# Altium footprint library RLC Footprints.PcbLib: 68 footprints (part 1 of 5)
Each footprint in its own frame and in the unit in brackets; x right, y up, seen from the top. Pads: shape width x height; smd on the part's side, far side on the other; paste and mask are expansions set on the pad; w line width, h text height; cw(c..) or ccw(c..) is an arc to the next point about the centre after c.
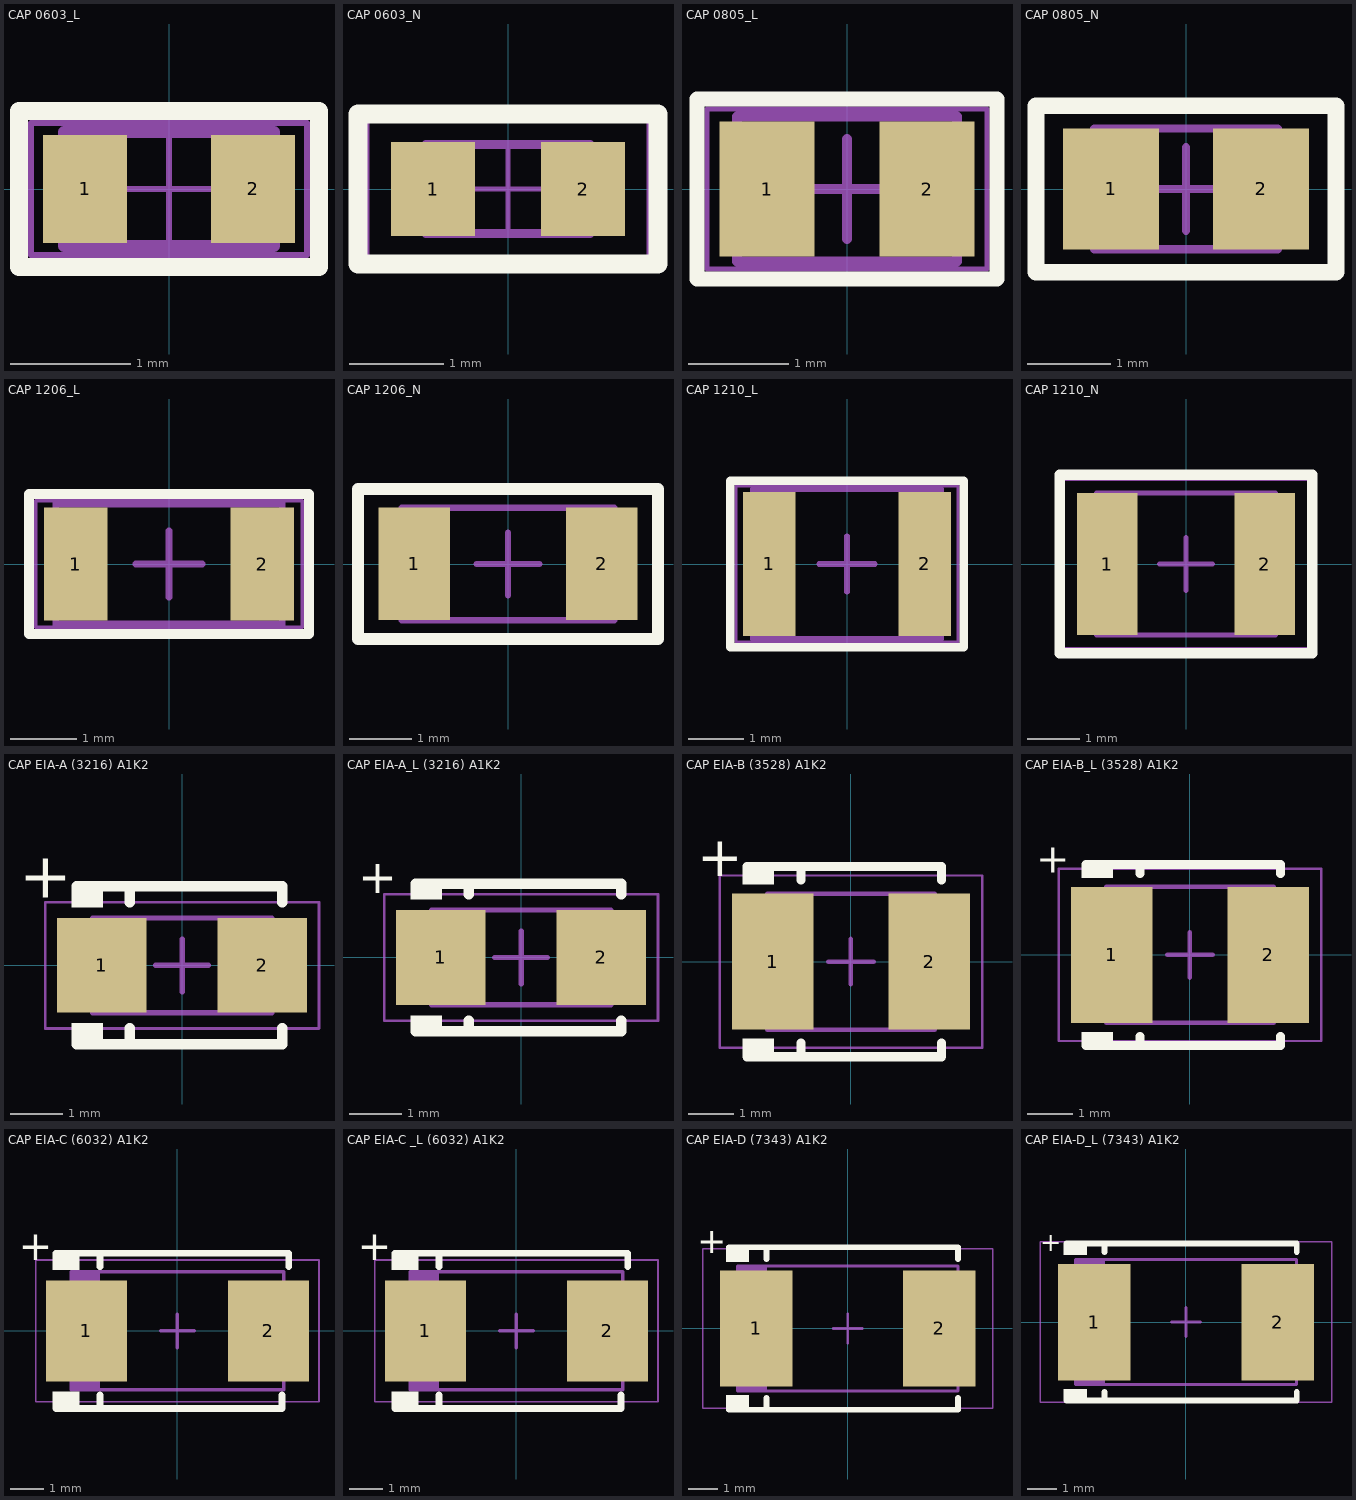
[diagram p0: the footprints below, top view; thin cyan lines are the x and y axes]

## CAP 0603_L [mm] "Chip Capacitor, Body 1.6x0.8mm, Height 0.55mm, IPC High Density"
height 0.55
pads (2):
  rect 0.7x0.9 smd: 1(-0.7,0) 2(0.7,0)
Top Overlay:
  lines w0.15: -1.25,-0.65 0.85,-0.65 1.25,-0.65 1.25,0.65 0.85,0.65 -1.25,0.65 -1.25,-0.65
Mechanical 13:
  lines w0.1: -0.875,-0.475 -0.875,0.475 0.875,0.475 0.875,-0.475 -0.875,-0.475
Mechanical 15:
  lines w0.05: -0.475,0 0.475,0 ; 0,-0.475 0,0.475 ; -1.15,-0.55 -1.15,0.55 1.15,0.55 1.15,-0.55 -1.15,-0.55
3D body: height 0.55, standoff 0, extent 0.525,-0.475 0.875,0.475
3D body: height 0.55, standoff 0, extent -0.875,-0.475 -0.525,0.475
3D body: height 0.55, standoff 0, extent -0.525,-0.475 0.525,0.475

## CAP 0603_N [mm] "Chip Capacitor, Body 1.6x0.8mm, Height 0.55mm, IPC Medium Density"
height 0.55
pads (2):
  rect 0.9x1 smd: 1(-0.8,0) 2(0.8,0)
Top Overlay:
  lines w0.2: -1.6,-0.8 -1.6,0.8 1.1,0.8 1.6,0.8 1.6,-0.8 1.1,-0.8 -1.6,-0.8
Mechanical 13:
  lines w0.1: -0.875,-0.475 -0.875,0.475 0.875,0.475 0.875,-0.475 -0.875,-0.475
Mechanical 15:
  lines w0.05: -0.475,0 0.475,0 ; 0,-0.475 0,0.475 ; -1.5,-0.75 -1.5,0.75 1.5,0.75 1.5,-0.75 -1.5,-0.75
3D body: height 0.55, standoff 0, extent -0.525,-0.475 0.525,0.475
3D body: height 0.55, standoff 0, extent -0.875,-0.475 -0.525,0.475
3D body: height 0.55, standoff 0, extent 0.525,-0.475 0.875,0.475

## CAP 0805_L [mm] "Chip Capacitor, Body 2.0x1.2mm, Height 0.75mm, IPC High Density"
height 0.75
pads (2):
  rect 0.95x1.35 smd: 1(-0.8,0) 2(0.8,0)
Top Overlay:
  lines w0.15: -1.5,-0.9 -1.5,0.9 1.1,0.9 1.5,0.9 1.5,-0.9 1.1,-0.9 -1.5,-0.9
Mechanical 13:
  lines w0.1: -1.1,-0.725 -1.1,0.725 1.1,0.725 1.1,-0.725 -1.1,-0.725
Mechanical 15:
  lines w0.05: -1.4,-0.8 -1.4,0.8 1.4,0.8 1.4,-0.8 -1.4,-0.8
  lines w0.1: -0.5,0 0.5,0 ; 0,-0.5 0,0.5
3D body: height 0.75, standoff 0, extent -0.6,-0.725 0.6,0.725
3D body: height 0.75, standoff 0, extent -1.1,-0.725 -0.6,0.725
3D body: height 0.75, standoff 0, extent 0.6,-0.725 1.1,0.725

## CAP 0805_N [mm] "Chip Capacitor, Body 2.0x1.2mm, Height 0.75mm, IPC Medium Density"
height 0.75
pads (2):
  rect 1.15x1.45 smd: 1(-0.9,0) 2(0.9,0)
Top Overlay:
  lines w0.2: -1.8,-1 1.1,-1 1.8,-1 1.8,1 1.1,1 -1.8,1 -1.8,-0.9 -1.8,-1
Mechanical 13:
  lines w0.1: -1.1,-0.725 -1.1,0.725 1.1,0.725 1.1,-0.725 -1.1,-0.725
Mechanical 15:
  lines w0.05: -1.75,-1 -1.75,1 1.75,1 1.75,-1 -1.75,-1
  lines w0.1: -0.5,0 0.5,0 ; 0,-0.5 0,0.5
3D body: height 0.75, standoff 0, extent -0.6,-0.725 0.6,0.725
3D body: height 0.75, standoff 0, extent -1.1,-0.725 -0.6,0.725
3D body: height 0.75, standoff 0, extent 0.6,-0.725 1.1,0.725

## CAP 1206_L [mm] "Chip Capacitor, Body 3.2x1.6mm, Height 0.75mm, IPC High Density"
height 0.75
pads (2):
  rect 0.95x1.7 smd: 1(-1.4,0) 2(1.4,0)
Top Overlay:
  lines w0.15: -2.1,-1.05 -2.1,1.05 1.6,1.05 2.1,1.05 2.1,-1.05 1.6,-1.05 -2.1,-1.05
Mechanical 13:
  lines w0.1: -1.7,-0.9 1.7,-0.9 1.7,0.9 -1.7,0.9 -1.7,-0.9
Mechanical 15:
  lines w0.05: -2,-0.95 2,-0.95 2,0.95 -2,0.95 -2,-0.95
  lines w0.1: -0.5,0 0.5,0 ; 0,-0.5 0,0.5
3D body: height 0.75, standoff 0, extent 1.2,-0.9 1.7,0.9
3D body: height 0.75, standoff 0, extent -1.7,-0.9 -1.2,0.9
3D body: height 0.75, standoff 0, extent -1.2,-0.9 1.2,0.9

## CAP 1206_N [mm] "Chip Capacitor, Body 3.2x1.6mm, Height 0.75mm, IPC Medium Density"
height 0.75
pads (2):
  rect 1.15x1.8 smd: 1(-1.5,0) 2(1.5,0)
Top Overlay:
  lines w0.2: -2.4,-1.2 -2.4,1.2 1.6,1.2 2.4,1.2 2.4,-1.2 1.6,-1.2 -2.4,-1.2
Mechanical 13:
  lines w0.1: -1.7,-0.9 1.7,-0.9 1.7,0.9 -1.7,0.9 -1.7,-0.9
Mechanical 15:
  lines w0.05: -2.35,-1.15 2.35,-1.15 2.35,1.15 -2.35,1.15 -2.35,-1.15
  lines w0.1: -0.5,0 0.5,0 ; 0,-0.5 0,0.5
3D body: height 0.75, standoff 0, extent 1.2,-0.9 1.7,0.9
3D body: height 0.75, standoff 0, extent -1.7,-0.9 -1.2,0.9
3D body: height 0.75, standoff 0, extent -1.2,-0.9 1.2,0.9

## CAP 1210_L [mm] "Chip Capacitor, Body 3.2x2.5mm, Height 0.7mm, IPC High Density"
height 0.7
pads (2):
  rect 0.95x2.6 smd: 1(-1.4,0) 2(1.4,0)
Top Overlay:
  lines w0.15: -2.1,-1.5 -2.1,1.5 1.6,1.5 2.1,1.5 2.1,-1.5 1.6,-1.5 -2.1,-1.5
Mechanical 13:
  lines w0.1: -1.7,-1.35 1.7,-1.35 1.7,1.35 -1.7,1.35 -1.7,-1.35
Mechanical 15:
  lines w0.05: -2,-1.4 2,-1.4 2,1.4 -2,1.4 -2,-1.4
  lines w0.1: -0.5,0 0.5,0 ; 0,-0.5 0,0.5
3D body: height 0.7, standoff 0, extent 1.2,-1.35 1.7,1.35
3D body: height 0.7, standoff 0, extent -1.7,-1.35 -1.2,1.35
3D body: height 0.7, standoff 0, extent -1.2,-1.35 1.2,1.35

## CAP 1210_N [mm] "Chip Capacitor, Body 3.2x2.5mm, Height 0.7mm, IPC Medium Density"
height 0.7
pads (2):
  rect 1.15x2.7 smd: 1(-1.5,0) 2(1.5,0)
Top Overlay:
  lines w0.2: -2.4,-1.7 -2.4,1.7 1.6,1.7 2.4,1.7 2.4,-1.7 1.6,-1.7 -2.4,-1.7
Mechanical 13:
  lines w0.1: -1.7,-1.35 -1.7,1.35 1.7,1.35 1.7,-1.35 -1.7,-1.35
Mechanical 15:
  lines w0.05: -2.35,-1.6 -2.35,1.6 2.35,1.6 2.35,-1.6 -2.35,-1.6
  lines w0.1: -0.5,0 0.5,0 ; 0,-0.5 0,0.5
3D body: height 0.7, standoff 0, extent -1.2,-1.35 1.2,1.35
3D body: height 0.7, standoff 0, extent -1.7,-1.35 -1.2,1.35
3D body: height 0.7, standoff 0, extent 1.2,-1.35 1.7,1.35

## CAP EIA-A (3216) A1K2 [mm] "Molded Capacitor, 2-Leads, Body 3.20x1.60mm, IPC Medium Density"
height 1.8
pads (2):
  rect 1.7x1.8 smd: 1(-1.525,0) 2(1.525,0)
Top Overlay:
  rectangle: -2.1,-1.5 -1.5,-1.1
  rectangle: -2.1,1.1 -1.5,1.5
  lines w0.2: -2,-1.5 1.9,-1.5 1.9,-1.2 ; -2,1.5 1.9,1.5 1.9,1.2 ; -1,-1.5 -1,-1.2 ; -1,1.2 -1,1.5
  text "+" at -3.1,1 h1.5
Mechanical 13:
  rectangle: -1.7,-0.9 -1.243,0.9
  lines w0.1: -1.7,-0.9 -1.7,0.9 1.7,0.9 1.7,-0.9 -1.7,-0.9
Mechanical 15:
  lines w0.05: -2.6,-1.2 -2.6,1.2 2.6,1.2 2.6,-1.2 -2.6,-1.2
  lines w0.1: -0.5,0 0.5,0 ; 0,-0.5 0,0.5
3D body: height 1.9, standoff 1.8, extent -1.7,-0.9 -1.3,0.9
3D body: height 1.8, standoff 0, extent -1.7,-0.9 1.7,0.9

## CAP EIA-A_L (3216) A1K2 [mm] "Molded Capacitor, 2-Leads, Body 3.20x1.60mm, IPC High Density"
height 1.8
pads (2):
  rect 1.7x1.8 smd: 1(-1.525,0) 2(1.525,0)
Top Overlay:
  rectangle: -2.1,-1.4 -1.5,-1.1
  rectangle: -2.1,1.1 -1.5,1.4
  lines w0.2: -2,-1.4 1.9,-1.4 1.9,-1.2 ; -2,1.4 1.9,1.4 1.9,1.2 ; -1,-1.4 -1,-1.2 ; -1,1.2 -1,1.4
  text "+" at -3.1,1 h1.1
Mechanical 13:
  rectangle: -1.7,-0.9 -1.243,0.9
  lines w0.1: -1.7,-0.9 -1.7,0.9 1.7,0.9 1.7,-0.9 -1.7,-0.9
Mechanical 15:
  lines w0.05: -2.6,-1.2 -2.6,1.2 2.6,1.2 2.6,-1.2 -2.6,-1.2
  lines w0.1: -0.5,0 0.5,0 ; 0,-0.5 0,0.5
3D body: height 1.9, standoff 1.8, extent -1.7,-0.9 -1.3,0.9
3D body: height 1.8, standoff 0, extent -1.7,-0.9 1.7,0.9

## CAP EIA-B (3528) A1K2 [mm] "Molded Capacitor, 2-Leads, Body 3.50x2.80mm, IPC Medium Density"
height 2.1
pads (2):
  rect 1.8x3 smd: 1(-1.725,0) 2(1.725,0)
Top Overlay:
  rectangle: -2.4,1.7 -1.7,2.1
  rectangle: -2.4,-2.1 -1.7,-1.7
  lines w0.2: -2.3,-2.1 2,-2.1 2,-1.8 ; -2.3,2.1 2,2.1 2,1.8 ; -1.1,-2.1 -1.1,-1.8 ; -1.1,1.8 -1.1,2.1
  text "+" at -3.4,1.6 h1.5
Mechanical 13:
  rectangle: -1.85,-1.5 -1.352,1.5
  lines w0.1: -1.85,-1.5 1.85,-1.5 1.85,1.5 -1.85,1.5 -1.85,-1.5
Mechanical 15:
  lines w0.05: -2.9,-1.9 2.9,-1.9 2.9,1.9 -2.9,1.9 -2.9,-1.9
  lines w0.1: -0.5,0 0.5,0 ; 0,-0.5 0,0.5
3D body: height 2.1, standoff 0, extent -1.85,-1.5 1.85,1.5
3D body: height 2.2, standoff 2.1, extent -1.825,-1.5 -1.375,1.5

## CAP EIA-B_L (3528) A1K2 [mm] "Molded Capacitor, 2-Leads, Body 3.50x2.80mm, IPC High Density"
height 2.1
pads (2):
  rect 1.8x3 smd: 1(-1.725,0) 2(1.725,0)
Top Overlay:
  rectangle: -2.4,1.7 -1.7,2
  rectangle: -2.4,-2 -1.7,-1.7
  lines w0.2: -2.3,-2 2,-2 2,-1.8 ; -2.3,2 2,2 2,1.8 ; -1.1,-2 -1.1,-1.8 ; -1.1,1.8 -1.1,2
  text "+" at -3.4,1.6 h1.1
Mechanical 13:
  rectangle: -1.85,-1.5 -1.352,1.5
  lines w0.1: -1.85,-1.5 1.85,-1.5 1.85,1.5 -1.85,1.5 -1.85,-1.5
Mechanical 15:
  lines w0.05: -2.9,-1.9 2.9,-1.9 2.9,1.9 -2.9,1.9 -2.9,-1.9
  lines w0.1: -0.5,0 0.5,0 ; 0,-0.5 0,0.5
3D body: height 2.1, standoff 0, extent -1.85,-1.5 1.85,1.5
3D body: height 2.2, standoff 2.1, extent -1.825,-1.5 -1.375,1.5

## CAP EIA-C (6032) A1K2 [mm] "Molded Capacitor, 2-Leads, Body 6.00x3.20mm, IPC Medium Density"
height 2.8
pads (2):
  rect 2.4x3 smd: 1(-2.7,0) 2(2.7,0)
Top Overlay:
  rectangle: -3.7,1.8 -2.9,2.3
  rectangle: -3.7,-2.3 -2.9,-1.8
  lines w0.2: -3.6,-2.3 3.1,-2.3 3.1,-1.9 ; -3.6,2.3 3.3,2.3 3.3,1.9 ; -2.3,-2.3 -2.3,-1.9 ; -2.3,1.9 -2.3,2.3
  text "+" at -4.7,1.8 h1.5
Mechanical 13:
  rectangle: -3.15,-1.75 -2.303,1.75
  lines w0.1: -3.15,-1.75 3.15,-1.75 3.15,1.75 -3.15,1.75 -3.15,-1.75
Mechanical 15:
  lines w0.05: -4.2,-2.1 4.2,-2.1 4.2,2.1 -4.2,2.1 -4.2,-2.1
  lines w0.1: -0.5,0 0.5,0 ; 0,-0.5 0,0.5
3D body: height 2.9, standoff 2.8, extent -3.15,-1.75 -2.3,1.75
3D body: height 2.8, standoff 0, extent -3.15,-1.75 3.15,1.75

## CAP EIA-C _L (6032) A1K2 [mm] "Molded Capacitor, 2-Leads, Body 6.00x3.20mm, IPC High Density"
height 2.8
pads (2):
  rect 2.4x3 smd: 1(-2.7,0) 2(2.7,0)
Top Overlay:
  rectangle: -3.7,-2.3 -2.9,-1.8
  rectangle: -3.7,1.8 -2.9,2.3
  lines w0.2: -3.6,-2.3 3.1,-2.3 3.1,-1.9 ; -3.6,2.3 3.3,2.3 3.3,1.9 ; -2.3,-2.3 -2.3,-1.9 ; -2.3,1.9 -2.3,2.3
  text "+" at -4.7,1.8 h1.5
Mechanical 13:
  rectangle: -3.15,-1.75 -2.303,1.75
  lines w0.1: -3.15,-1.75 -3.15,1.75 3.15,1.75 3.15,-1.75 -3.15,-1.75
Mechanical 15:
  lines w0.05: -4.2,-2.1 -4.2,2.1 4.2,2.1 4.2,-2.1 -4.2,-2.1
  lines w0.1: -0.5,0 0.5,0 ; 0,-0.5 0,0.5
3D body: height 2.8, standoff 0, extent -3.15,-1.75 3.15,1.75
3D body: height 2.9, standoff 2.8, extent -3.15,-1.75 -2.3,1.75

## CAP EIA-D (7343) A1K2 [mm] "Molded Capacitor, 2-Leads, Body 7.30x4.30mm, IPC Medium Density"
height 3.1
pads (2):
  rect 2.5x4 smd: 1(-3.15,0) 2(3.15,0)
Top Overlay:
  rectangle: -4.2,-2.8 -3.4,-2.3
  rectangle: -4.2,2.3 -3.4,2.8
  lines w0.2: -4.1,-2.8 3.8,-2.8 3.8,-2.4 ; -4.1,2.8 3.8,2.8 3.8,2.4 ; -2.8,-2.8 -2.8,-2.4 ; -2.8,2.4 -2.8,2.8
  text "+" at -5.2,2.3 h1.5
Mechanical 13:
  rectangle: -3.8,-2.15 -2.778,2.15
  lines w0.1: -3.8,-2.15 3.8,-2.15 3.8,2.15 -3.8,2.15 -3.8,-2.15
Mechanical 15:
  lines w0.05: -5,-2.75 5,-2.75 5,2.75 -5,2.75 -5,-2.75
  lines w0.1: -0.5,0 0.5,0 ; 0,-0.5 0,0.5
3D body: height 3.1, standoff 0, extent -3.8,-2.15 3.8,2.15
3D body: height 3.2, standoff 3.1, extent -3.8,-2.15 -2.8,2.15

## CAP EIA-D_L (7343) A1K2 [mm] "Molded Capacitor, 2-Leads, Body 7.30x4.30mm, IPC High Density"
height 3.1
pads (2):
  rect 2.5x4 smd: 1(-3.15,0) 2(3.15,0)
Top Overlay:
  rectangle: -4.2,-2.7 -3.4,-2.3
  rectangle: -4.2,2.3 -3.4,2.7
  lines w0.2: -4.1,-2.7 3.8,-2.7 3.8,-2.4 ; -4.1,2.7 3.8,2.7 3.8,2.4 ; -2.8,-2.7 -2.8,-2.4 ; -2.8,2.4 -2.8,2.7
  text "+" at -5,2.2 h1.1
Mechanical 13:
  rectangle: -3.8,-2.15 -2.778,2.15
  lines w0.1: -3.8,-2.15 3.8,-2.15 3.8,2.15 -3.8,2.15 -3.8,-2.15
Mechanical 15:
  lines w0.05: -5,-2.75 5,-2.75 5,2.75 -5,2.75 -5,-2.75
  lines w0.1: -0.5,0 0.5,0 ; 0,-0.5 0,0.5
3D body: height 3.1, standoff 0, extent -3.8,-2.15 3.8,2.15
3D body: height 3.2, standoff 3.1, extent -3.8,-2.15 -2.8,2.15